# EAGLE library part AMS5915 (library Amsys)
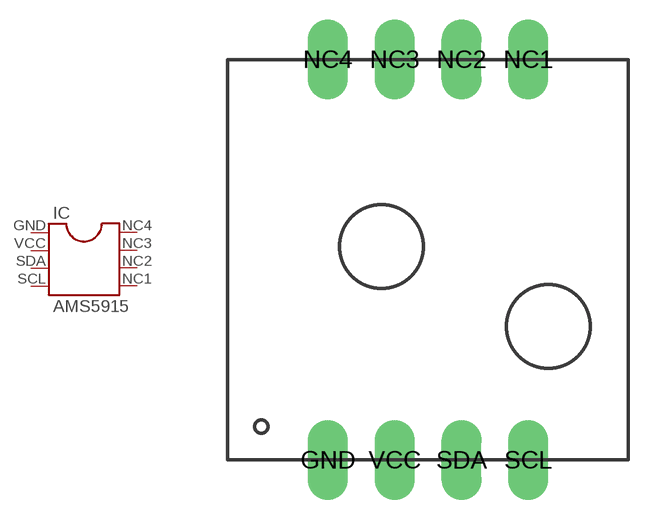
[diagram p0: symbol with the pads of AMS5915; footprint AMS5915]

Designator prefix IC

## AMS5915  [AMS5915]
GND  1  pas
NC1  5  pas
NC2  6  pas
NC3  7  pas
NC4  8  pas
SCL  4  pas
SDA  3  pas
VCC  2  pas

## Footprint AMS5915 (pad centres in mm)
drill 1.016 long: GND 3.81,0; NC1 11.43,15.24; NC2 8.89,15.24; NC3 6.35,15.24; NC4 3.81,15.24; SCL 11.43,0; SDA 8.89,0; VCC 6.35,0